# Altium integrated library WD Peripheral HD Data Sep-Sync.IntLib: 6 symbols
Pins are listed as number, name and electrical type; pins without a type are passive.

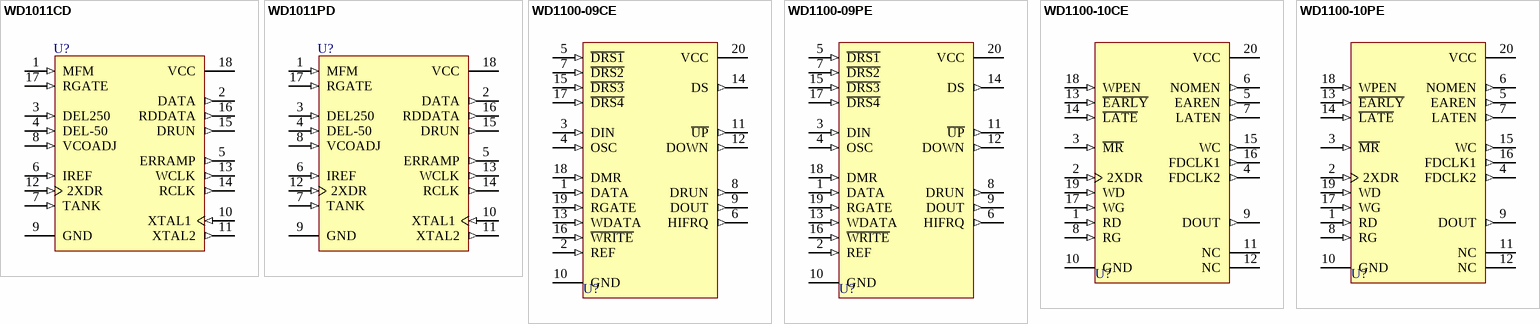
[diagram p0: symbols WD1011CD to WD1100-10PE]

## WD1011CD
designator U?
Winchester Data Separator Device; PackageDocument: 1984; Published: 8-Jun-2000; LatestRevisionDate: 4-Mar-2005; LatestRevisionNote: Stylized 3D Model Added.; DatasheetDocument: 1984; PackageReference: CD18; Publisher: Altium Limited; ComponentLink1Description: Manufacturer Link; ComponentLink1URL: http://www.wdc.com/; Code_JEDEC: MS-001-BC
footprint CD18 (DIP; 18 Leads; Row Spacing 7.62 mm; Pitch 2.54 mm)
3D model CD18 (DIP; 18 Leads; Row Spacing 7.62 mm; Pitch 2.54 mm)
pins: 1 MFM (in), 2 DATA (out), 3 DEL250 (in), 4 DEL-50 (in), 5 ERRAMP (out), 6 IREF (in), 7 TANK (in), 8 VCOADJ (in), 9 GND (power), 10 XTAL1 (in), 11 XTAL2 (out), 12 2XDR (in), 13 WCLK (out), 14 RCLK (out), 15 DRUN (out), 16 RDDATA (out), 17 RGATE (in), 18 VCC (power)

## WD1011PD
designator U?
Winchester Data Separator Device; PackageDocument: 1984; Published: 8-Jun-2000; LatestRevisionDate: 4-Mar-2005; LatestRevisionNote: Stylized 3D Model Added.; DatasheetDocument: 1984; PackageReference: PD18; Publisher: Altium Limited; ComponentLink1Description: Manufacturer Link; ComponentLink1URL: http://www.wdc.com/
footprint PD18 (DIP; 18 Leads; Row Spacing 7.62 mm; Pitch 2.54 mm)
3D model PD18 (DIP; 18 Leads; Row Spacing 7.62 mm; Pitch 2.54 mm)
pins: 1 MFM (in), 2 DATA (out), 3 DEL250 (in), 4 DEL-50 (in), 5 ERRAMP (out), 6 IREF (in), 7 TANK (in), 8 VCOADJ (in), 9 GND (power), 10 XTAL1 (in), 11 XTAL2 (out), 12 2XDR (in), 13 WCLK (out), 14 RCLK (out), 15 DRUN (out), 16 RDDATA (out), 17 RGATE (in), 18 VCC (power)

## WD1100-09CE
designator U?
Data Separator Support Logic; PackageDocument: 1984; Published: 8-Jun-2000; LatestRevisionDate: 4-Mar-2005; LatestRevisionNote: Stylized 3D Model Added.; DatasheetDocument: 1984; PackageReference: CE20; Publisher: Altium Limited; ComponentLink1Description: Manufacturer Link; ComponentLink1URL: http://www.wdc.com/
footprint CE20 (DIP; 20 Leads; Row Spacing 7.62 mm; Pitch 2.54 mm)
3D model CE20 (DIP; 20 Leads; Row Spacing 7.62 mm; Pitch 2.54 mm)
pins: 1 DATA (in), 2 REF (in), 3 DIN (in), 4 OSC (in), 5 ~{DRS1} (in), 6 HIFRQ (out), 7 ~{DRS2} (in), 8 DRUN (out), 9 DOUT (out), 10 GND (power), 11 ~{UP} (out), 12 DOWN (out), 13 WDATA (in), 14 DS (out), 15 ~{DRS3} (in), 16 ~{WRITE} (in), 17 ~{DRS4} (in), 18 DMR (in), 19 RGATE (in), 20 VCC (power)

## WD1100-09PE
designator U?
Data Separator Support Logic; PackageDocument: 1984; Published: 8-Jun-2000; LatestRevisionDate: 4-Mar-2005; LatestRevisionNote: Stylized 3D Model Added.; DatasheetDocument: 1984; PackageReference: PE20; Publisher: Altium Limited; ComponentLink1Description: Manufacturer Link; ComponentLink1URL: http://www.wdc.com/; Code_JEDEC: MS-001-AD
footprint PE20 (DIP; 20 Leads; Row Spacing 7.62 mm; Pitch 2.54 mm)
3D model PE20 (DIP; 20 Leads; Row Spacing 7.62 mm; Pitch 2.54 mm)
pins: 1 DATA (in), 2 REF (in), 3 DIN (in), 4 OSC (in), 5 ~{DRS1} (in), 6 HIFRQ (out), 7 ~{DRS2} (in), 8 DRUN (out), 9 DOUT (out), 10 GND (power), 11 ~{UP} (out), 12 DOWN (out), 13 WDATA (in), 14 DS (out), 15 ~{DRS3} (in), 16 ~{WRITE} (in), 17 ~{DRS4} (in), 18 DMR (in), 19 RGATE (in), 20 VCC (power)

## WD1100-10CE
designator U?
Write Precompensation/Data Separator Support Chip; PackageDocument: 1984; Published: 8-Jun-2000; LatestRevisionDate: 4-Mar-2005; LatestRevisionNote: Stylized 3D Model Added.; DatasheetDocument: 1984; PackageReference: CE20; Publisher: Altium Limited; ComponentLink1Description: Manufacturer Link; ComponentLink1URL: http://www.wdc.com/
footprint CE20 (DIP; 20 Leads; Row Spacing 7.62 mm; Pitch 2.54 mm)
3D model CE20 (DIP; 20 Leads; Row Spacing 7.62 mm; Pitch 2.54 mm)
pins: 1 RD (in), 2 2XDR (in), 3 ~{MR} (in), 4 FDCLK2 (out), 5 EAREN (out), 6 NOMEN (out), 7 LATEN (out), 8 RG (in), 9 DOUT (out), 10 GND (power), 11 NC, 12 NC, 13 ~{EARLY} (in), 14 ~{LATE} (in), 15 WC (out), 16 FDCLK1 (out), 17 WG (in), 18 WPEN (in), 19 WD (in), 20 VCC (power)

## WD1100-10PE
designator U?
Write Precompensation/Data Separator Support Chip; PackageDocument: 1984; Published: 8-Jun-2000; LatestRevisionDate: 4-Mar-2005; LatestRevisionNote: Stylized 3D Model Added.; DatasheetDocument: 1984; PackageReference: PE20; Publisher: Altium Limited; ComponentLink1Description: Manufacturer Link; ComponentLink1URL: http://www.wdc.com/; Code_JEDEC: MS-001-AD
footprint PE20 (DIP; 20 Leads; Row Spacing 7.62 mm; Pitch 2.54 mm)
3D model PE20 (DIP; 20 Leads; Row Spacing 7.62 mm; Pitch 2.54 mm)
pins: 1 RD (in), 2 2XDR (in), 3 ~{MR} (in), 4 FDCLK2 (out), 5 EAREN (out), 6 NOMEN (out), 7 LATEN (out), 8 RG (in), 9 DOUT (out), 10 GND (power), 11 NC, 12 NC, 13 ~{EARLY} (in), 14 ~{LATE} (in), 15 WC (out), 16 FDCLK1 (out), 17 WG (in), 18 WPEN (in), 19 WD (in), 20 VCC (power)